# Altium schematic symbol library PhantomComponents.SchLib: 1 symbol
Pins are listed as number, name and electrical type; pins without a type are passive.

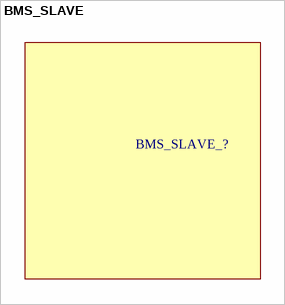
[diagram p0: symbol BMS_SLAVE]

## BMS_SLAVE
designator BMS_SLAVE_?  (value not drawn)